# EAGLE library part CON-AVR-ISP-6-ROW (library Namenlos)
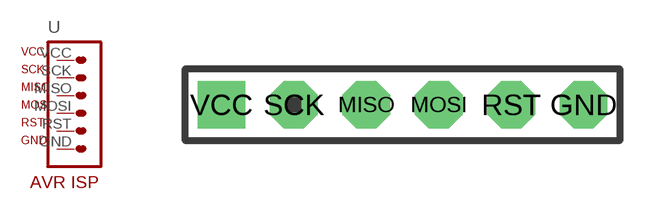
[diagram p4: symbol with the pads of AVR-ISP-6-ROW; footprint AVR-ISP-6-ROW]

Designator prefix -

## CON-AVR-ISP-6-ROW  [AVR-ISP-6-ROW]
GND  GND  pas
MISO  MISO  pas
MOSI  MOSI  pas
RST  RST  pas
SCK  SCK  pas
VCC  VCC  pas

## Footprint AVR-ISP-6-ROW (pad centres in mm)
drill 0.5 pad 1.676 octagon: GND 6.35,0; MISO -1.27,0; MOSI 1.27,0; RST 3.81,0; SCK -3.81,0
drill 0.5 pad 1.676 square: VCC -6.35,0